# EAGLE library part ANALOG_STICK (library Keyboard Parts Library v52)
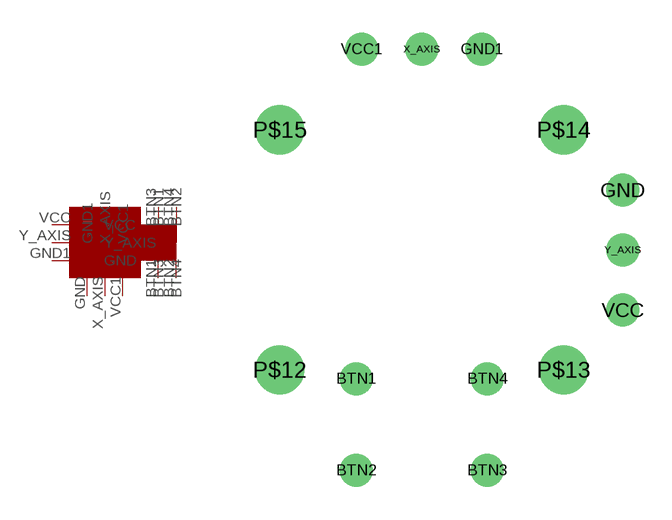
[diagram p1: symbol with the pads of ANALOG_STICK; footprint ANALOG_STICK]

Designator prefix -

## ANALOG_STICK  [ANALOG_STICK]
BTN1  BTN1
BTN2  BTN2
BTN3  BTN3
BTN4  BTN4
GND  GND1
GND1  GND
VCC  VCC
VCC1  VCC1
X_AXIS  X_AXIS
Y_AXIS  Y_AXIS

## Footprint ANALOG_STICK (pad centres in mm)
drill 1: BTN1 -3,-5.9; BTN2 -3,-10.1; BTN3 3,-10.1; BTN4 3,-5.9; GND 9.2,2.75; GND1 2.75,9.2; VCC 9.2,-2.75; VCC1 -2.75,9.2; X_AXIS 0,9.2; Y_AXIS 9.2,0
drill 1.5: P$12 -6.5,-5.5; P$13 6.5,-5.5; P$14 6.5,5.5; P$15 -6.5,5.5